# Altium footprint library Motor PCB Library.PcbLib: 6 footprints
Each footprint in its own frame and in the unit in brackets; x right, y up, seen from the top. Pads: shape width x height; smd on the part's side, far side on the other; paste and mask are expansions set on the pad; w line width, h text height; cw(c..) or ccw(c..) is an arc to the next point about the centre after c.
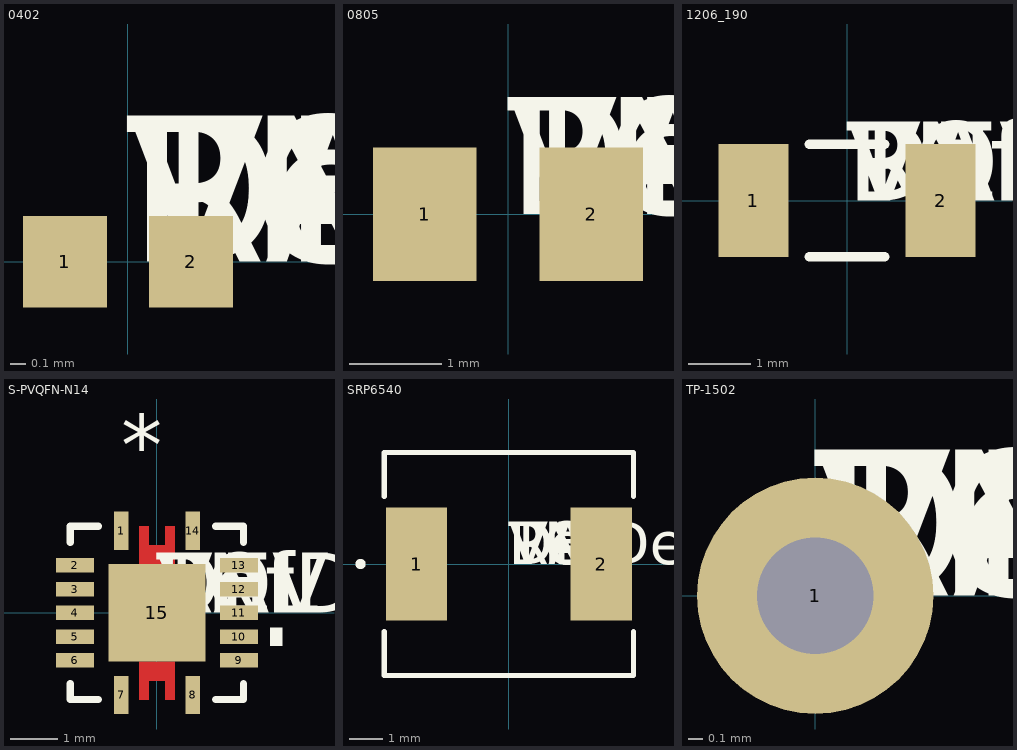
[diagram p0: the footprints below, top view; thin cyan lines are the x and y axes]

## 0402 [mil]
pads (2):
  rect 22x24 smd: 1(-16.5,0) 2(16.5,0)
Top Overlay:
  text "RefDes" at 0,0 h50
  text "DEV" at 0,0 h50
  text "PN" at 0,0 h50
  text "DEV" at 0,0 h50
  text "VAL" at 0,0 h50
  text "TOL" at 0,0 h50

## 0805 [mil]
pads (2):
  rect 44x57 smd: 1(-35.5,0) 2(35.5,0)
Top Overlay:
  text "RefDes" at 0,0 h50
  text "DEV" at 0,0 h50
  text "PN" at 0,0 h50
  text "DEV" at 0,0 h50
  text "VAL" at 0,0 h50
  text "TOL" at 0,0 h50

## 1206_190 [mil]
pads (2):
  rect 44x71 smd: 1(-59,0) 2(59,0)
Top Overlay:
  lines w6: -23.9,-35.5 23.9,-35.5 ; -23.9,35.5 23.9,35.5
  text "RefDes" at 0,0 h50
  text "DEV" at 0,0 h50
  text "PN" at 0,0 h50
  text "DEV" at 0,0 h50
  text "VAL" at 0,0 h50
  text "TOL" at 0,0 h50

## S-PVQFN-N14 [mil]
pads (15):
  rect 12x31.68 smd: 1(-29.53,68.01) 7(-29.53,-68.01) 8(29.53,-68.01) 14(29.53,68.01)
  rect 31.68x12 smd: 2(-68.01,39.38) 3(-68.01,19.69) 4(-68.01,0) 5(-68.01,-19.69) 6(-68.01,-39.38) 9(68.01,-39.38) 10(68.01,-19.69) 11(68.01,0) 12(68.01,19.69) 13(68.01,39.38)
  rect 80.71x80.71 smd paste-39.85: 15(0,0)
Top Layer:
  region: -14.76,40.35 14.76,40.35 14.76,71.85 6.89,71.85 6.89,56.1 -6.89,56.1 -6.89,71.85 -14.76,71.85
  region: -14.76,-40.35 14.76,-40.35 14.76,-71.85 6.89,-71.85 6.89,-56.1 -6.89,-56.1 -6.89,-71.85 -14.76,-71.85
Top Overlay:
  region: 93.85,-12.19 103.85,-12.19 103.85,-27.19 93.85,-27.19
  lines w6: -71.85,-58.48 -71.85,-71.85 -48.63,-71.85 ; -71.85,58.48 -71.85,71.85 -48.63,71.85 ; 48.63,-71.85 71.85,-71.85 71.85,-58.48 ; 48.63,71.85 71.85,71.85 71.85,58.48
  text "*" at -29.53,114.85 h50
  text "RefDes" at 0,0 h50
  text "DEV" at 0,0 h50
  text "PN" at 0,0 h50
  text "DEV" at 0,0 h50
  text "VAL" at 0,0 h50
  text "TOL" at 0,0 h50
Top Paste:
  region: 40.35,40.35 -40.35,40.35 -40.35,-40.35 40.35,-40.35
  region: 6.89,40.35 14.76,40.35 14.76,71.85 6.89,71.85
  region: -14.76,40.35 -6.89,40.35 -6.89,71.85 -14.76,71.85
  region: 6.89,-40.35 14.76,-40.35 14.76,-71.85 6.89,-71.85
  region: -14.76,-40.35 -6.89,-40.35 -6.89,-71.85 -14.76,-71.85
Top Solder:
  region: -14.76,40.35 14.76,40.35 14.76,71.85 6.89,71.85 6.89,56.1 -6.89,56.1 -6.89,71.85 -14.76,71.85
  region: -14.76,-40.35 14.76,-40.35 14.76,-71.85 6.89,-71.85 6.89,-56.1 -6.89,-56.1 -6.89,-71.85 -14.76,-71.85

## SRP6540 [mil]
pads (2):
  rect 72.5x134 smd: 1(-109.25,0) 2(109.25,0)
Top Overlay:
  circle w6: c-175.5,0 r3
  lines w6: -147.5,-79.95 -147.5,-132 147.5,-132 147.5,-79.95 ; -147.5,79.95 -147.5,132 147.5,132 147.5,79.95
  text "RefDes" at 0,0 h50
  text "DEV" at 0,0 h50
  text "PN" at 0,0 h50
  text "DEV" at 0,0 h50
  text "VAL" at 0,0 h50
  text "TOL" at 0,0 h50

## TP-1502 [mil]
pads (1):
  round 65 / inner round 60 / far side round 65 hole 32: 1(0,0)
Top Overlay:
  text "RefDes" at 0,0 h50
  text "DEV" at 0,0 h50
  text "PN" at 0,0 h50
  text "DEV" at 0,0 h50
  text "VAL" at 0,0 h50
  text "TOL" at 0,0 h50